# EAGLE library part 4R20P (library con-harting)
CONNECTOR
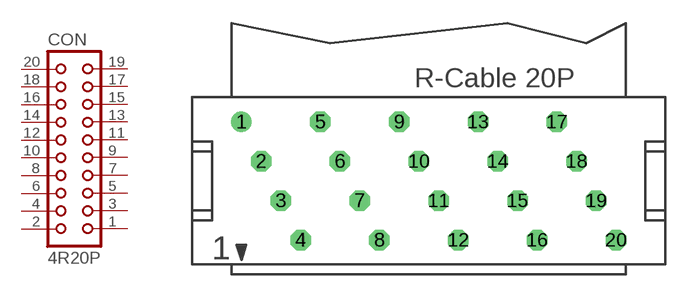
[diagram p21: symbol with the pads of 4R20P; footprint 4R20P]

Designator prefix CON

## 4R20P (OC_FARNELL: unknown; OC_NEWARK: unknown)  [4R20P]
1  1  pas
2  2  pas
3  3  pas
4  4  pas
5  5  pas
6  6  pas
7  7  pas
8  8  pas
9  9  pas
10  10  pas
11  11  pas
12  12  pas
13  13  pas
14  14  pas
15  15  pas
16  16  pas
17  17  pas
18  18  pas
19  19  pas
20  20  pas

## Footprint 4R20P (pad centres in mm)
CONNECTOR
drill 0.813 round: 1 -12.065,3.81
drill 0.813 octagon: 2 -10.795,1.27; 3 -9.525,-1.27; 4 -8.255,-3.81; 5 -6.985,3.81; 6 -5.715,1.27; 7 -4.445,-1.27; 8 -3.175,-3.81; 9 -1.905,3.81; 10 -0.635,1.27; 11 0.635,-1.27; 12 1.905,-3.81; 13 3.175,3.81; 14 4.445,1.27; 15 5.715,-1.27; 16 6.985,-3.81; 17 8.255,3.81; 18 9.525,1.27; 19 10.795,-1.27; 20 12.065,-3.81